# EAGLE library part TFC-145 (library con-samtec)
TFC-145, 90 PIN, MALE
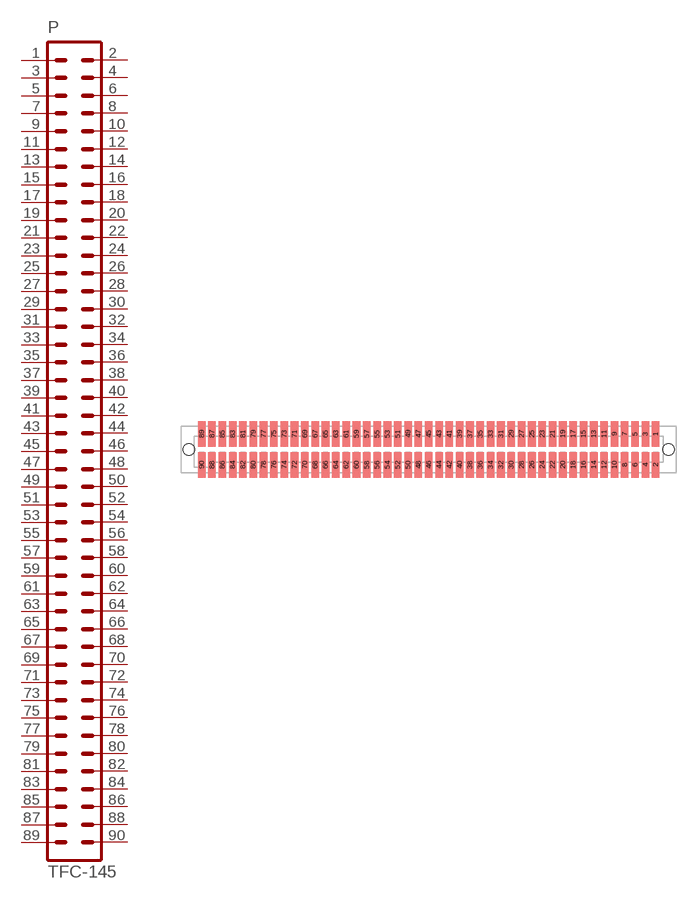
[diagram p4: symbol with the pads of TFC-145; footprint TFC-145]

Designator prefix P

## TFC-145  [TFC-145]
1  1  pas
2  2  pas
3  3  pas
4  4  pas
5  5  pas
6  6  pas
7  7  pas
8  8  pas
9  9  pas
10  10  pas
11  11  pas
12  12  pas
13  13  pas
14  14  pas
15  15  pas
16  16  pas
17  17  pas
18  18  pas
19  19  pas
20  20  pas
21  21  pas
22  22  pas
23  23  pas
24  24  pas
25  25  pas
26  26  pas
27  27  pas
28  28  pas
29  29  pas
30  30  pas
31  31  pas
32  32  pas
33  33  pas
34  34  pas
35  35  pas
36  36  pas
37  37  pas
38  38  pas
39  39  pas
40  40  pas
41  41  pas
42  42  pas
43  43  pas
44  44  pas
45  45  pas
46  46  pas
47  47  pas
48  48  pas
49  49  pas
50  50  pas
51  51  pas
52  52  pas
53  53  pas
54  54  pas
55  55  pas
56  56  pas
57  57  pas
58  58  pas
59  59  pas
60  60  pas
61  61  pas
62  62  pas
63  63  pas
64  64  pas
65  65  pas
66  66  pas
67  67  pas
68  68  pas
69  69  pas
70  70  pas
71  71  pas
72  72  pas
73  73  pas
74  74  pas
75  75  pas
76  76  pas
77  77  pas
78  78  pas
79  79  pas
80  80  pas
81  81  pas
82  82  pas
83  83  pas
84  84  pas
85  85  pas
86  86  pas
87  87  pas
88  88  pas
89  89  pas
90  90  pas

## Footprint TFC-145 (pad centres in mm)
SFC-145-XX MALE, 90 PIN
smd 0.94 x 3.124: 1 27.94,1.905; 2 27.94,-1.905; 3 26.67,1.905; 4 26.67,-1.905; 5 25.4,1.905; 6 25.4,-1.905; 7 24.13,1.905; 8 24.13,-1.905; 9 22.86,1.905; 10 22.86,-1.905; 11 21.59,1.905; 12 21.59,-1.905; 13 20.32,1.905; 14 20.32,-1.905; 15 19.05,1.905; 16 19.05,-1.905; 17 17.78,1.905; 18 17.78,-1.905; 19 16.51,1.905; 20 16.51,-1.905; 21 15.24,1.905; 22 15.24,-1.905; 23 13.97,1.905; 24 13.97,-1.905; 25 12.7,1.905; 26 12.7,-1.905; 27 11.43,1.905; 28 11.43,-1.905; 29 10.16,1.905; 30 10.16,-1.905; 31 8.89,1.905; 32 8.89,-1.905; 33 7.62,1.905; 34 7.62,-1.905; 35 6.35,1.905; 36 6.35,-1.905; 37 5.08,1.905; 38 5.08,-1.905; 39 3.81,1.905; 40 3.81,-1.905; 41 2.54,1.905; 42 2.54,-1.905; 43 1.27,1.905; 44 1.27,-1.905; 45 0,1.905; 46 0,-1.905; 47 -1.27,1.905; 48 -1.27,-1.905; 49 -2.54,1.905; 50 -2.54,-1.905; 51 -3.81,1.905; 52 -3.81,-1.905; 53 -5.08,1.905; 54 -5.08,-1.905; 55 -6.35,1.905; 56 -6.35,-1.905; 57 -7.62,1.905; 58 -7.62,-1.905; 59 -8.89,1.905; 60 -8.89,-1.905; 61 -10.16,1.905; 62 -10.16,-1.905; 63 -11.43,1.905; 64 -11.43,-1.905; 65 -12.7,1.905; 66 -12.7,-1.905; 67 -13.97,1.905; 68 -13.97,-1.905; 69 -15.24,1.905; 70 -15.24,-1.905; 71 -16.51,1.905; 72 -16.51,-1.905; 73 -17.78,1.905; 74 -17.78,-1.905; 75 -19.05,1.905; 76 -19.05,-1.905; 77 -20.32,1.905; 78 -20.32,-1.905; 79 -21.59,1.905; 80 -21.59,-1.905; 81 -22.86,1.905; 82 -22.86,-1.905; 83 -24.13,1.905; 84 -24.13,-1.905; 85 -25.4,1.905; 86 -25.4,-1.905; 87 -26.67,1.905; 88 -26.67,-1.905; 89 -27.94,1.905; 90 -27.94,-1.905
hole 1.422 at -29.527,0
hole 1.422 at 29.527,0